# Altium schematic symbol library MPF102.SchLib: 1 symbol
Pins are listed as number, name and electrical type; pins without a type are passive.

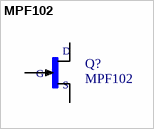
[diagram p0: symbol MPF102]

## MPF102
designator Q?
JFET 25V 10mA; MF: ON Semiconductor; Package: TO-226-3 ON Semiconductor; Price: None; SnapEDA_Link: https://www.snapeda.com/parts/MPF102/ON%20Semiconductor/view-part/?ref=snap; MP: MPF102; Availability: Unavailable; Value: *
footprint *TO92F
pins: 1 D, 2 S, 3 G